# EAGLE library part 24C* (library microchip)
Serial EEPROM 1 K/2 K/4 K
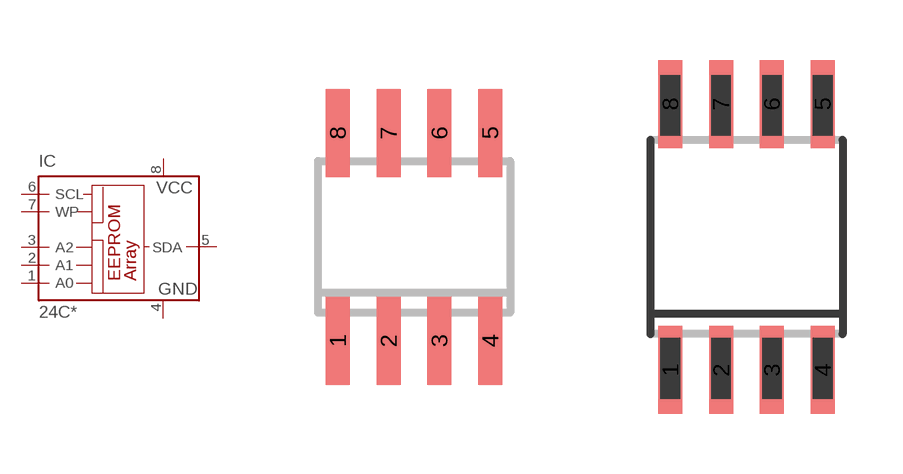
[diagram p55: symbol with the pads of SO-08; footprints SO-08, SO-08M]

Designator prefix IC

## 24C01SN (MPN: CAT24C01WI-GT3; OC_FARNELL: 1718117; OC_NEWARK: 06R0487), 24C01ASN (MPN: AT24C01BN-SH-B; OC_FARNELL: 1362638; OC_NEWARK: 50M3313), 24C01CSN (MF: MICROCHIP; MPN: 24C01C/SN; OC_FARNELL: unknown; OC_NEWARK: 96K4061), 24C02SN (OC_FARNELL: unknown; OC_NEWARK: unknown), 24C02ASN (OC_FARNELL: unknown; OC_NEWARK: unknown), 24C02CSN (MF: MICROCHIP; MPN: 24C02C/SN; OC_FARNELL: 1607552; OC_NEWARK: 96K4065), 24C04SN (MPN: M24C04-WMN6P; OC_FARNELL: 9882812; OC_NEWARK: 83K1376), 24C04ASN (OC_FARNELL: unknown; OC_NEWARK: unknown), 24C04CSN (OC_FARNELL: unknown; OC_NEWARK: unknown)  [SO-08]
1  A0  in
2  A1  in
3  A2  in
4  GND  pwr
5  SDA
6  SCL  in
7  WP  in
8  VCC  pwr

## 24C01SM (MPN: M24C01-WMN6P; OC_FARNELL: 9882790; OC_NEWARK: 24M5068), 24C01ASM (MPN: AT24C01BN-SH-B; OC_FARNELL: 1362638; OC_NEWARK: 50M3313), 24C01CSM (MPN: M24C01-WMN6P; OC_FARNELL: 9882790; OC_NEWARK: 24M5068), 24C02SM (MF: MICROCHIP; MPN: 24C02C-I/SN; OC_FARNELL: 1084339; OC_NEWARK: 96K4063), 24C02ASM (MPN: M24C02-WMN6P; OC_FARNELL: 9882804; OC_NEWARK: 10M9771), 24C02CSM (MF: MICROCHIP; MPN: 24C02C-I/SN; OC_FARNELL: 1084339; OC_NEWARK: 96K4063), 24C04SM (MPN: CAT24C04WI-G; OC_FARNELL: 1631136; OC_NEWARK: 06R0507), 24C04ASM (MPN: AT24C04BN-SH-B; OC_FARNELL: 1362643; OC_NEWARK: 50M3316)  [SO-08M]
Pads as for SO-08

## 24C01P (MF: MICROCHIP; MPN: 24C01C-I/P; OC_FARNELL: 1847800; OC_NEWARK: 92C6948), 24C01AP (MF: Arrow Electronics; MPN: M24C01-WBN6P; OC_FARNELL: 9882782; OC_NEWARK: 93K7306), 24C01CP (MF: MICROCHIP; MPN: 24C01C/P; OC_FARNELL: 3662901; OC_NEWARK: 96K4060), 24C02P (OC_FARNELL: unknown; OC_NEWARK: unknown), 24C02AP (MPN: M24C02-WBN6P; OC_FARNELL: 1094256; OC_NEWARK: 11M0888), 24C02CP (MF: MICROCHIP; MPN: 24C02C/P; OC_FARNELL: 1296567; OC_NEWARK: 96K4064), 24C04P (MPN: M24C04-WBN6P; OC_FARNELL: 1094258; OC_NEWARK: 02M5802), 24C04AP (MPN: AT24C04B-PU; OC_FARNELL: 1362642; OC_NEWARK: 50M3315), 24C04CP (MPN: CAT24C04LI-G; OC_FARNELL: 1718374; OC_NEWARK: 73P4460)  [DIL8]
Pads as for SO-08

## 24C01SL (OC_FARNELL: unknown; OC_NEWARK: unknown), 24C02SL (OC_FARNELL: unknown; OC_NEWARK: unknown), 24C04SL (OC_FARNELL: unknown; OC_NEWARK: unknown)  [SO-14]
2  A0  in
3  A1  in
5  A2  in
6  GND  pwr
9  SDA
10  SCL  in
12  WP  in
13  VCC  pwr

## Footprint SO-08 (pad centres in mm)
Small Outline Narrow Plastic Gull Wing 150-mil body, package type SN
smd 0.6 x 2.2: 1 -1.905,-2.6; 2 -0.635,-2.6; 3 0.635,-2.6; 4 1.905,-2.6; 5 1.905,2.6; 6 0.635,2.6; 7 -0.635,2.6; 8 -1.905,2.6

## Footprint SO-08M (pad centres in mm)
Small Outline Medium Plastic Gull Wing 207-mil body, package type SM
smd 0.6 x 2.2: 1 -1.905,-3.33; 2 -0.635,-3.33; 3 0.635,-3.33; 4 1.905,-3.33; 5 1.905,3.33; 6 0.635,3.33; 7 -0.635,3.33; 8 -1.905,3.33

## Footprint DIL8 (pad centres in mm)
Dual In Line package type P
drill 0.813 long: 1 -3.81,-3.81; 2 -1.27,-3.81; 3 1.27,-3.81; 4 3.81,-3.81; 5 3.81,3.81; 6 1.27,3.81; 7 -1.27,3.81; 8 -3.81,3.81

## Footprint SO-14 (pad centres in mm)
Small Outline Narrow Plastic Gull Wing 150-mil body, package type SL
smd 0.6 x 2.2: 1 -3.81,-2.6; 2 -2.54,-2.6; 3 -1.27,-2.6; 4 0,-2.6; 5 1.27,-2.6; 6 2.54,-2.6; 7 3.81,-2.6; 8 3.81,2.6; 9 2.54,2.6; 10 1.27,2.6; 11 0,2.6; 12 -1.27,2.6; 13 -2.54,2.6; 14 -3.81,2.6